# Altium footprint library BeagleBone_Black_RevB4.PcbLib: 45 footprints (part 3 of 3)
Each footprint in its own frame and in the unit in brackets; x right, y up, seen from the top. Pads: shape width x height; smd on the part's side, far side on the other; paste and mask are expansions set on the pad; w line width, h text height; cw(c..) or ccw(c..) is an arc to the next point about the centre after c.
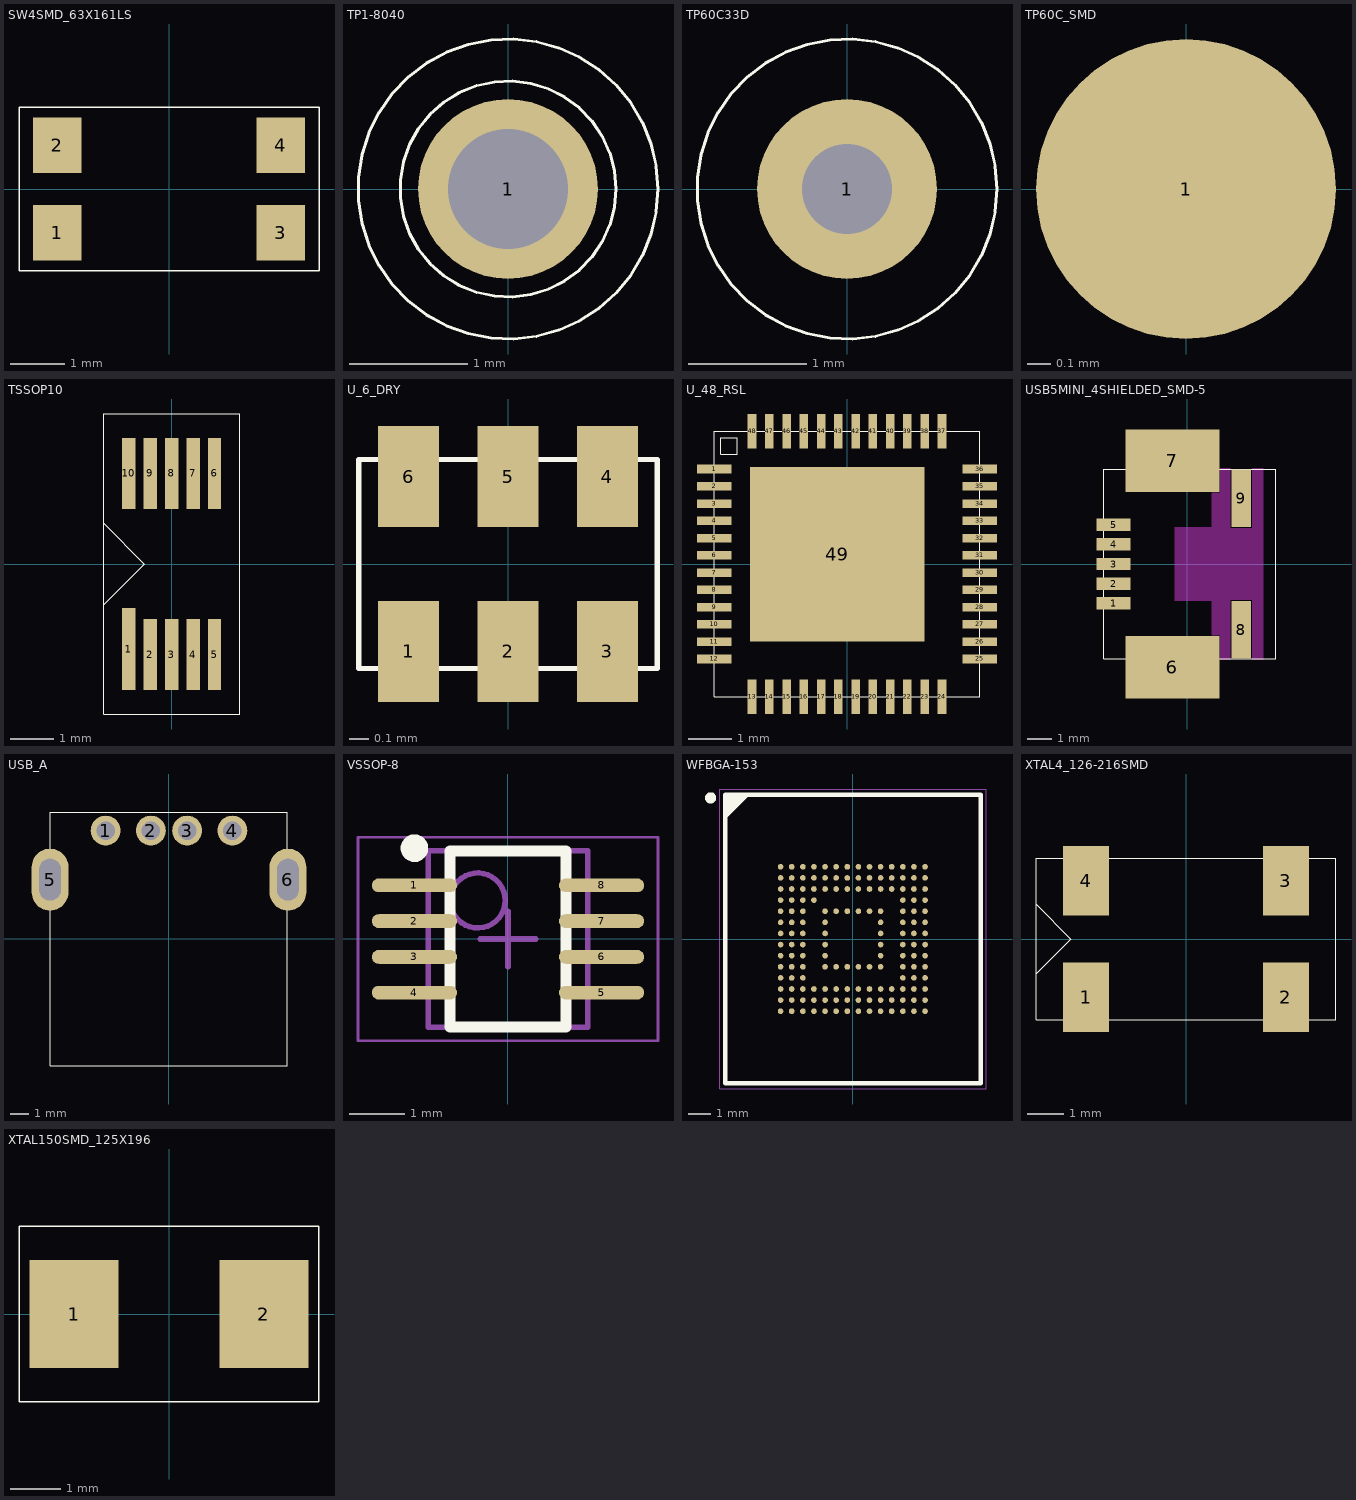
[diagram p2: the footprints below, top view; thin cyan lines are the x and y axes]

## SW4SMD_63X161LS [mil] "SW4SMD_63X161LS"
pads (4):
  rect 35x40 smd mask+2: 1(-80.71,-31.5) 2(-80.71,31.5) 3(80.71,-31.5) 4(80.71,31.5)
Top Overlay:
  lines w1: -108.27,-59.06 108.27,-59.06 108.27,59.06 -108.27,59.06 -108.27,-59.06

## TP1-8040 [mil] "TP1-8040"
pads (1):
  round 60 hole 40 mask+2: 1(0,0)
Top Overlay:
  circle w1: c0,0 r50
  circle w1: c0,0 r36

## TP60C33D [mil] "TP60C33D"
pads (1):
  round 60 hole 30 mask+2: 1(0,0)
Top Overlay:
  circle w1: c0,0 r50

## TP60C_SMD [mil] "TP60C_SMD"
pads (1):
  round 50 smd mask+2: 1(0,0)

## TSSOP10 [mil] "TSSOP10"
pads (10):
  rect 12x75 smd mask+2: 1(-39.37,-78)
  rect 12x65 smd mask+2: 2(-19.69,-83) 3(0,-83) 4(19.69,-83) 5(39.37,-83) 6(39.37,83) 7(19.69,83) 8(0,83) 9(-19.69,83) 10(-39.37,83)
Top Overlay:
  lines w1: -62.5,-37.5 -25,0 -62.5,37.5 ; -62.5,-137.5 62.5,-137.5 62.5,137.5 -62.5,137.5 -62.5,-137.5

## U_6_DRY [mil] "U_6_DRY"
pads (6):
  rect 12x20 smd mask+2: 1(-19.68,-17.28) 2(0,-17.28) 3(19.68,-17.28) 4(19.68,17.28) 5(0,17.28) 6(-19.68,17.28)
Top Overlay:
  lines w1: -29.53,-20.67 -29.53,20.67 29.53,20.67 29.53,-20.67 -29.53,-20.67

## U_48_RSL [mil] "U_48_RSL"
pads (49):
  rect 31.5x7.87 smd mask+2: 1(-121.06,86.61) 2(-121.06,70.87) 3(-121.06,55.12) 4(-121.06,39.37) 5(-121.06,23.62) 6(-121.06,7.87) 7(-121.06,-7.87) 8(-121.06,-23.62) 9(-121.06,-39.37) 10(-121.06,-55.12) 11(-121.06,-70.87) 12(-121.06,-86.61) 25(121.06,-86.61) 26(121.06,-70.87) 27(121.06,-55.12) 28(121.06,-39.37) 29(121.06,-23.62) 30(121.06,-7.87) 31(121.06,7.87) 32(121.06,23.62) 33(121.06,39.37) 34(121.06,55.12) 35(121.06,70.87) 36(121.06,86.61)
  rect 7.87x31.5 smd mask+2: 13(-86.61,-121.06) 14(-70.87,-121.06) 15(-55.12,-121.06) 16(-39.37,-121.06) 17(-23.62,-121.06) 18(-7.87,-121.06) 19(7.87,-121.06) 20(23.62,-121.06) 21(39.37,-121.06) 22(55.12,-121.06) 23(70.87,-121.06) 24(86.61,-121.06) 37(86.61,121.06) 38(70.87,121.06) 39(55.12,121.06) 40(39.37,121.06) 41(23.62,121.06) 42(7.87,121.06) 43(-7.87,121.06) 44(-23.62,121.06) 45(-39.37,121.06) 46(-55.12,121.06) 47(-70.87,121.06) 48(-86.61,121.06)
  rect 159.45x159.45 smd mask+2: 49(-8.86,8.86)
Top Overlay:
  lines w1: -121.06,-121.06 -121.06,121.06 121.06,121.06 121.06,-121.06 -121.06,-121.06 ; -115,100 -115,115 -100,115 -100,100 -115,100
Top Paste:
  pour cut-out: 25.64,-70.64 25.64,-25.64 70.64,-25.64 70.64,-70.64
  pour cut-out: -31.36,-70.64 -31.36,-25.64 13.64,-25.64 13.64,-70.64
  pour cut-out: -88.36,-70.64 -88.36,-25.64 -43.36,-25.64 -43.36,-70.64
  pour cut-out: 25.64,43.36 25.64,88.36 70.64,88.36 70.64,43.36
  pour cut-out: -31.36,43.36 -31.36,88.36 13.64,88.36 13.64,43.36
  pour cut-out: -88.36,43.36 -88.36,88.36 -43.36,88.36 -43.36,43.36
  pour cut-out: -88.36,-13.64 -88.36,31.36 -43.36,31.36 -43.36,-13.64
  pour cut-out: -31.36,-13.64 -31.36,31.36 13.64,31.36 13.64,-13.64
  pour cut-out: 25.64,-13.64 25.64,31.36 70.64,31.36 70.64,-13.64

## USB5MINI_4SHIELDED_SMD-5 [mm] "USB5MINI_4SHIELDED_SMD-5"
pads (9):
  rect 1.4x0.5 smd mask+0.051: 1(-3,-1.6) 2(-3,-0.8) 3(-3,0) 4(-3,0.8) 5(-3,1.6)
  rect 3.81x2.54 smd mask+0.051: 6(-0.6,-4.2) 7(-0.6,4.2)
  rect 0.8x2.35 smd mask+0.051: 8(2.2,-2.675) 9(2.2,2.675)
Top Layer keep-out:
  region: 1.35,-3.9 1.75,-3.9 1.75,-1.45 2.65,-1.45 2.65,-3.9 3.1,-3.9 3.1,3.9 2.65,3.9 2.65,1.45 1.75,1.45 1.75,3.9 1.35,3.9 1.35,2.9 1,2.9 1,1.5 -0.5,1.5 -0.5,-1.5 1,-1.5 1,-2.9 1.35,-2.9
Top Overlay:
  lines w0.025: -3.4,-3.85 -3.4,3.85 3.6,3.85 3.6,-3.85 -3.4,-3.85

## USB_A [mil] "USB_A_SH"
pads (6):
  round 65 hole 40 mask+2: 1(-137.1,235.7) 2(-38.7,235.7) 3(40.1,235.7) 4(138.5,235.7)
  oval 80x135 hole 47.24 slot 90.55 at 90 deg mask+2: 5(-258,129) 6(259.4,129)
Top Overlay:
  lines w1: -258,-275.7 -258,275.5 257.8,275.5 257.8,-275.7 -258,-275.7
3D body "87520-0010BLFc.stp": height 304.53, standoff -108.07, extent -285.43,-275.59 285.43,275.59

## VSSOP-8 [mm] "TSOP, 8-Leads, Body 2.95x2.80mm, Pitch 0.65mm, Thermal Pad 0.00x0.00mm, IPC Medium Density"
height 1.3
pads (8):
  oval 1.55x0.25 smd: 1(-1.7,0.975) 2(-1.7,0.325) 3(-1.7,-0.325) 4(-1.7,-0.975) 5(1.7,-0.975) 6(1.7,-0.325) 7(1.7,0.325) 8(1.7,0.975)
Top Overlay:
  circle w0.25: c-1.7,1.65 r0.125
  lines w0.2: -1.05,-1.6 -1.05,1.6 1.05,1.6 1.05,-1.6 -1.05,-1.6
Mechanical 13:
  circle w0.1: c-0.55,0.7 r0.5
  lines w0.1: -1.45,-1.6 -1.45,1.6 1.45,1.6 1.45,-1.6 -1.45,-1.6
Mechanical 15:
  lines w0.05: -2.725,-1.85 -2.725,1.85 2.725,1.85 2.725,-1.85 -2.725,-1.85
  lines w0.1: -0.5,0 0.5,0 ; 0,-0.5 0,0.5
3D body "TSOP65P400X130_HS-9N.step": height 1.3, standoff 0, extent -2,-1.6 2,1.6

## WFBGA-153 [mil] "BGA, 153-Leads, Body 11.50x13.00mmx1.00mm, Pitch 0.50mm"
height 39.37
pads (153):
  round 10 smd mask+2: A1(-127.95,127.95) A2(-108.27,127.95) A3(-88.58,127.95) A4(-68.9,127.95) A5(-49.21,127.95) A6(-29.53,127.95) A7(-9.84,127.95) A8(9.84,127.95) A9(29.53,127.95) A10(49.21,127.95) A11(68.9,127.95) A12(88.58,127.95) A13(108.27,127.95) A14(127.95,127.95) B1(-127.95,108.27) B2(-108.27,108.27) B3(-88.58,108.27) B4(-68.9,108.27) B5(-49.21,108.27) B6(-29.53,108.27) B7(-9.84,108.27) B8(9.84,108.27) B9(29.53,108.27) B10(49.21,108.27) B11(68.9,108.27) B12(88.58,108.27) B13(108.27,108.27) B14(127.95,108.27) C1(-127.95,88.58) C2(-108.27,88.58) C3(-88.58,88.58) C4(-68.9,88.58) C5(-49.21,88.58) C6(-29.53,88.58) C7(-9.84,88.58) C8(9.84,88.58) C9(29.53,88.58) C10(49.21,88.58) C11(68.9,88.58) C12(88.58,88.58) C13(108.27,88.58) C14(127.95,88.58) D1(-127.95,68.9) D2(-108.27,68.9) D3(-88.58,68.9) D4(-68.9,68.9) D12(88.58,68.9) D13(108.27,68.9) D14(127.95,68.9) E1(-127.95,49.21) E2(-108.27,49.21) E3(-88.58,49.21) E5(-49.21,49.21) E6(-29.53,49.21) E7(-9.84,49.21) E8(9.84,49.21) E9(29.53,49.21) E10(49.21,49.21) E12(88.58,49.21) E13(108.27,49.21) E14(127.95,49.21) F1(-127.95,29.53) F2(-108.27,29.53) F3(-88.58,29.53) F5(-49.21,29.53) F10(49.21,29.53) F12(88.58,29.53) F13(108.27,29.53) F14(127.95,29.53) G1(-127.95,9.84) G2(-108.27,9.84) G3(-88.58,9.84) G5(-49.21,9.84) G10(49.21,9.84) G12(88.58,9.84) G13(108.27,9.84) G14(127.95,9.84) H1(-127.95,-9.84) H2(-108.27,-9.84) H3(-88.58,-9.84) H5(-49.21,-9.84) H10(49.21,-9.84) H12(88.58,-9.84) H13(108.27,-9.84) H14(127.95,-9.84) J1(-127.95,-29.53) J2(-108.27,-29.53) J3(-88.58,-29.53) J5(-49.21,-29.53) J10(49.21,-29.53) J12(88.58,-29.53) J13(108.27,-29.53) J14(127.95,-29.53) K1(-127.95,-49.21) K2(-108.27,-49.21) K3(-88.58,-49.21) K5(-49.21,-49.21) K6(-29.53,-49.21) K7(-9.84,-49.21) K8(9.84,-49.21) K9(29.53,-49.21) K10(49.21,-49.21) K12(88.58,-49.21) K13(108.27,-49.21) K14(127.95,-49.21) L1(-127.95,-68.9) L2(-108.27,-68.9) L3(-88.58,-68.9) L12(88.58,-68.9) L13(108.27,-68.9) L14(127.95,-68.9) M1(-127.95,-88.58) M2(-108.27,-88.58) M3(-88.58,-88.58) M4(-68.9,-88.58) M5(-49.21,-88.58) M6(-29.53,-88.58) M7(-9.84,-88.58) M8(9.84,-88.58) M9(29.53,-88.58) M10(49.21,-88.58) M11(68.9,-88.58) M12(88.58,-88.58) M13(108.27,-88.58) M14(127.95,-88.58) N1(-127.95,-108.27) N2(-108.27,-108.27) N3(-88.58,-108.27) N4(-68.9,-108.27) N5(-49.21,-108.27) N6(-29.53,-108.27) N7(-9.84,-108.27) N8(9.84,-108.27) N9(29.53,-108.27) N10(49.21,-108.27) N11(68.9,-108.27) N12(88.58,-108.27) N13(108.27,-108.27) N14(127.95,-108.27) P1(-127.95,-127.95) P2(-108.27,-127.95) P3(-88.58,-127.95) P4(-68.9,-127.95) P5(-49.21,-127.95) P6(-29.53,-127.95) P7(-9.84,-127.95) P8(9.84,-127.95) P9(29.53,-127.95) P10(49.21,-127.95) P11(68.9,-127.95) P12(88.58,-127.95) P13(108.27,-127.95) P14(127.95,-127.95)
Top Overlay:
  circle w9.84: c-251.97,250 r4.92
  region: -187.01,255.91 -226.38,216.54 -226.38,255.91
  lines w7.87: -226.38,216.54 -187.01,255.91 ; -226.38,-255.91 226.38,-255.91 226.38,255.91 -226.38,255.91 -226.38,-255.91
Mechanical 13:
  lines w3.94: -226.38,-255.91 226.38,-255.91 226.38,255.91 -226.38,255.91 -226.38,-255.91
Mechanical 15:
  lines w1.97: -236.22,-265.75 236.22,-265.75 236.22,265.75 -236.22,265.75 -236.22,-265.75
3D body "BGA153C50P14X14_1150X1300X100.step": height 39.37, standoff 0, extent -226.38,-255.91 226.38,255.91

## XTAL4_126-216SMD [mil] "XTAL4_126-216SMD"
pads (4):
  rect 50x75 smd mask+2: 1(-108.2,-63) 2(108.3,-63) 3(108.3,63) 4(-108.2,63)
Top Overlay:
  lines w1: -162.5,-37.5 -125,0 -162.5,37.5 ; -162.5,-87.5 -162.5,87.5 162.5,87.5 162.5,-87.5 -162.5,-87.5

## XTAL150SMD_125X196 [mil] "XTAL150SMD_125X196"
pads (2):
  rect 70x85 smd mask+2: 1(-74.8,0) 2(74.8,0)
Top Overlay:
  lines w1: -118.11,-68.9 -118.11,68.9 118.11,68.9 118.11,-68.9 -118.11,-68.9